# EAGLE library part MAX11198 (library MAX11198)
Dual ADC MAX11198
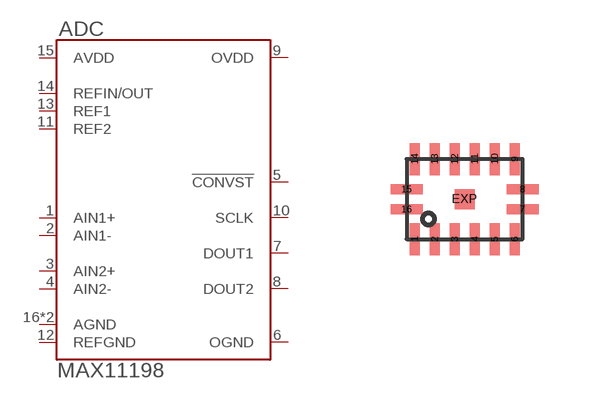
[diagram p0: symbol with the pads of T1623CN+1; footprint T1623CN+1]

Designator prefix ADC

## MAX11198  [T1623CN+1]
1  AIN1+
2  AIN1-
3  AIN2+
4  AIN2-
5  !CONVST!  in
6  OGND  pas
7  DOUT1  out
8  DOUT2  out
9  OVDD  pwr
10  SCLK  in
11  REF2
12  REFGND  pas
13  REF1
14  REFIN/OUT
15  AVDD  pwr
16  AGND  pas
EXP  AGND  pas

## Footprint T1623CN+1 (pad centres in mm)
smd 0.25 x 0.8: 1 -1.25,-1; 2 -0.75,-1; 3 -0.25,-1; 4 0.25,-1; 5 0.75,-1; 6 1.25,-1; 9 1.25,1; 10 0.75,1; 11 0.25,1; 12 -0.25,1; 13 -0.75,1; 14 -1.25,1
smd 0.8 x 0.25: 7 1.45,-0.25; 8 1.45,0.25; 15 -1.45,0.25; 16 -1.45,-0.25
smd 0.5 x 0.5: EXP 0,0